# Altium integrated library PCB_One.IntLib: 21 symbols
Pins are listed as number, name and electrical type; pins without a type are passive.

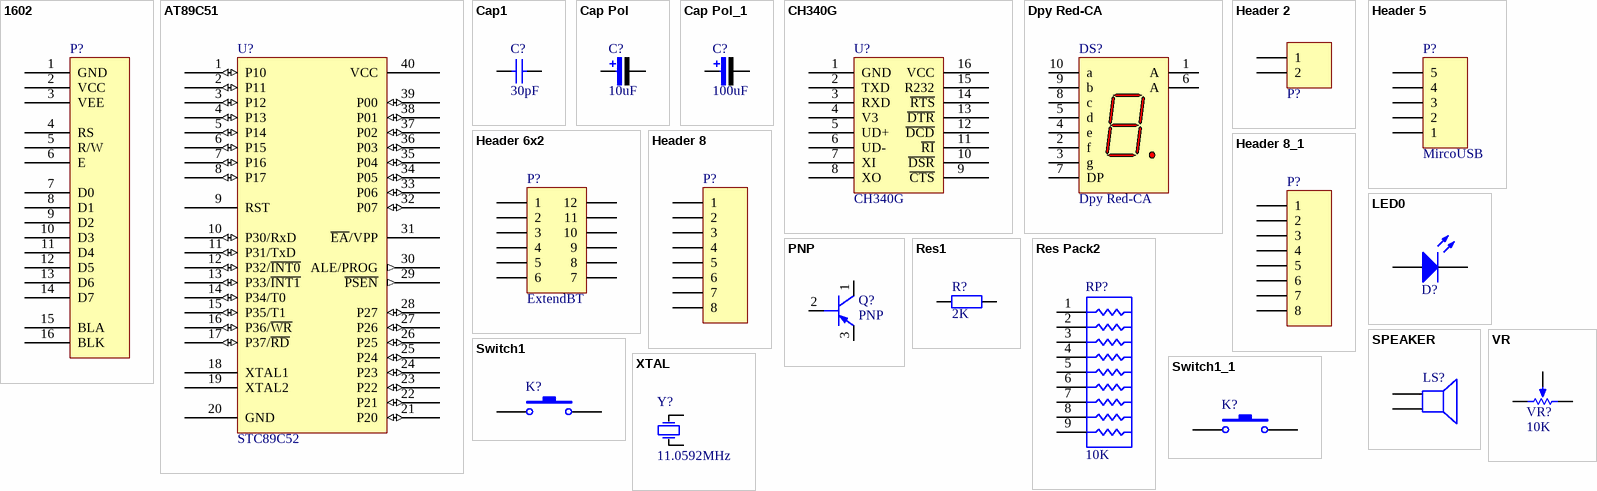
[diagram p0: symbols 1602 to XTAL]

## 1602
designator P?
1602液晶显示器
footprint SIP16
pins: 1 GND, 2 VCC, 3 VEE, 4 RS, 5 R/W, 6 E, 7 D0, 8 D1, 9 D2, 10 D3, 11 D4, 12 D5, 13 D6, 14 D7, 15 BLA, 16 BLK

## AT89C51
designator U?, comment STC89C52
C51单片机; Name: *
footprint DIP40
pins: 1 P10 (io), 2 P11 (io), 3 P12 (io), 4 P13 (io), 5 P14 (io), 6 P15 (io), 7 P16 (io), 8 P17 (io), 9 RST, 10 P30/RxD (io), 11 P31/TxD (io), 12 P32/~{INT0} (io), 13 P33/~{INT1} (io), 14 P34/T0 (io), 15 P35/T1 (io), 16 P36/~{WR} (io), 17 P37/~{RD} (io), 18 XTAL1, 19 XTAL2, 20 GND, 21 P20 (io), 22 P21 (io), 23 P22 (io), 24 P23 (io), 25 P24 (io), 26 P25 (io), 27 P26 (io), 28 P27 (io), 29 ~{PSEN} (out), 30 ALE/PROG (out), 31 ~{EA}/VPP, 32 P07 (io), 33 P06 (io), 34 P05 (io), 35 P04 (io), 36 P03 (io), 37 P02 (io), 38 P01 (io), 39 P00 (io), 40 VCC

## Cap1
designator C?, comment 30pF
电容; Value: *
footprint C-RAD (瓷片电容)
pins: 1, 2

## Cap Pol
designator C?  value 10uF  (hidden comment: Cap Pol)
极性电解电容; Vol: 16V; Published: 8-Jun-2000; LatestRevisionDate: 17-Jul-2002; LatestRevisionNote: Re-released for DXP Platform.; PackageReference: RB7.6-15; Publisher: Altium Limited
footprint CAP_10uF
pins: 1, 2
1 alternate drawing of the same symbol

## Cap Pol_1
designator C?, comment value 100uF  (hidden comment: Cap Pol)
极性电解电容; Vol: 16V; Published: 8-Jun-2000; LatestRevisionDate: 17-Jul-2002; LatestRevisionNote: Re-released for DXP Platform.; PackageReference: RB7.6-15; Publisher: Altium Limited
footprint CAP_100uF
pins: 1, 2
1 alternate drawing of the same symbol

## CH340G
designator U?
USB-SERIAL
footprint SOP-16
pins: 1 GND, 2 TXD, 3 RXD, 4 V3, 5 UD+, 6 UD-, 7 XI, 8 XO, 9 ~{CTS}, 10 ~{DSR}, 11 ~{RI}, 12 ~{DCD}, 13 ~{DTR}, 14 ~{RTS}, 15 R232, 16 VCC

## Dpy Red-CA
designator DS?
7.62 mm Black Surface HER 7-Segment Display: CA, RH DP; MinimumIntensity: 360 ucd; Note: IF = 5 mA; Colour: High Efficiency Red (HER); Note: Pins 1 and 6 are redundant Anodes.; Published: 8-Jun-2000; LatestRevisionDate: 17-Dec-2003; LatestRevisionNote: Schematic revised, PCB Footprint replaced.; DatasheetVersion: 19-Feb-2002; PackageVersion: 11-Feb-2002; PackageReference: A; Publisher: Altium Limited; PackageDescription: LED, 7-Segment Display, 7.62 mm, RHD; 10 Leads; Row Space 5.08 mm; Pitch 2.54 mm; ComponentLink1Description: Manufacturer Link; ComponentLink1URL: http://www.agilent.com/
footprint A (LED, 7-Segment Display, 7.62 mm, RHD; 10 Leads; Row Space 5.08 mm; Pitch 2.54 mm)
simulation model HDSP_A211 (SUBCKT)
pins: 1 A "Anode", 2 f "Cathode", 3 g "Cathode", 4 e "Cathode", 5 d "Cathode", 6 A "Anode", 7 DP "Cathode", 8 c "Cathode", 9 b "Cathode", 10 a "Cathode"

## Header 2
designator P?  (value not drawn)
接插件; LatestRevisionDate: 17-Jul-2002; LatestRevisionNote: Re-released for DXP Platform.; Publisher: Altium Limited
footprint HDR2X1_C (3.81接插件)
footprint HDR2X1_D1 (5.08mm端)
footprint HDR2X1_A (Connector; Header; 2 Position)
footprint HDR2X1_B2 (Connector; Header; 4 Position)
footprint HDR2X1_B1 (Connector; Header; 4 Position)
footprint HDR2X1_D2 (Connector; Header; 4 Position)
pins: 1, 2

## Header 5
designator P?, comment MircoUSB
5PIN
footprint MircoUSB
pins: 1, 2, 3, 4, 5

## Header 6x2
designator P?, comment ExtendBT
6PIN两排
footprint HDR2x6
pins: 1, 2, 3, 4, 5, 6, 7, 8, 9, 10, 11, 12

## Header 8
designator P?  (value not drawn)
8PIN
footprint SIP8 - duplicate
pins: 1, 2, 3, 4, 5, 6, 7, 8

## Header 8_1
designator P?, comment Header 8  (value not drawn)
8PIN
footprint SIP8
pins: 1, 2, 3, 4, 5, 6, 7, 8

## LED0
designator D?  (value not drawn)
发光二极管; Published: 8-Jun-2000; LatestRevisionDate: 08-Jul-2005; LatestRevisionNote: Mech Layer 1 removed.; PackageReference: LED-0; Publisher: Altium Limited
footprint LED3
pins: A, K

## PNP
designator Q?
PNP Transistor
footprint TO-92
pins: 1 COLLECTOR (oc), 2 BASE (oc), 3 EMITTER (oe)

## Res1
designator R?  value 2K  (hidden comment: Res1)
贴片电阻; Published: 8-Jun-2000; LatestRevisionDate: 17-Jul-2002; LatestRevisionNote: Re-released for DXP Platform.; PackageReference: AXIAL-0.4; Publisher: Altium Limited
footprint 0805
pins: 1, 2

## Res Pack2
designator RP?, comment 10K
9PIN排阻; Value: *
footprint SIP9 - duplicate
pins: 1, 2, 3, 4, 5, 6, 7, 8, 9

## SPEAKER
designator LS?  (value not drawn)
footprint Beep (蜂鸣器)
pins: 1, 2

## Switch1
designator K?  (value not drawn)
按键/单刀单掷开关
footprint SW_PB - 6.5x4.5
pins: 1, 2

## Switch1_1
designator K?, comment Switch1  (value not drawn)
按键/单刀单掷开关
footprint KEY-6
pins: 1, 2

## VR
designator VR?, comment 10K
可变电阻器; Value: *
footprint VR4
pins: 1 TOP, 2 TAP, 3 BOT

## XTAL
designator Y?  value 11.0592MHz  (hidden comment: XTAL)
晶振; Published: 8-Jun-2000; LatestRevisionDate: 17-Jul-2002; LatestRevisionNote: Re-released for DXP Platform.; PackageReference: R38; Publisher: Altium Limited
footprint XTAL1
pins: 1 OSC1, 2 OSC2